# Altium footprint library WR-USB.PcbLib: 52 footprints (part 2 of 4)
Each footprint in its own frame and in the unit in brackets; x right, y up, seen from the top. Pads: shape width x height; smd on the part's side, far side on the other; paste and mask are expansions set on the pad; w line width, h text height; cw(c..) or ccw(c..) is an arc to the next point about the centre after c.
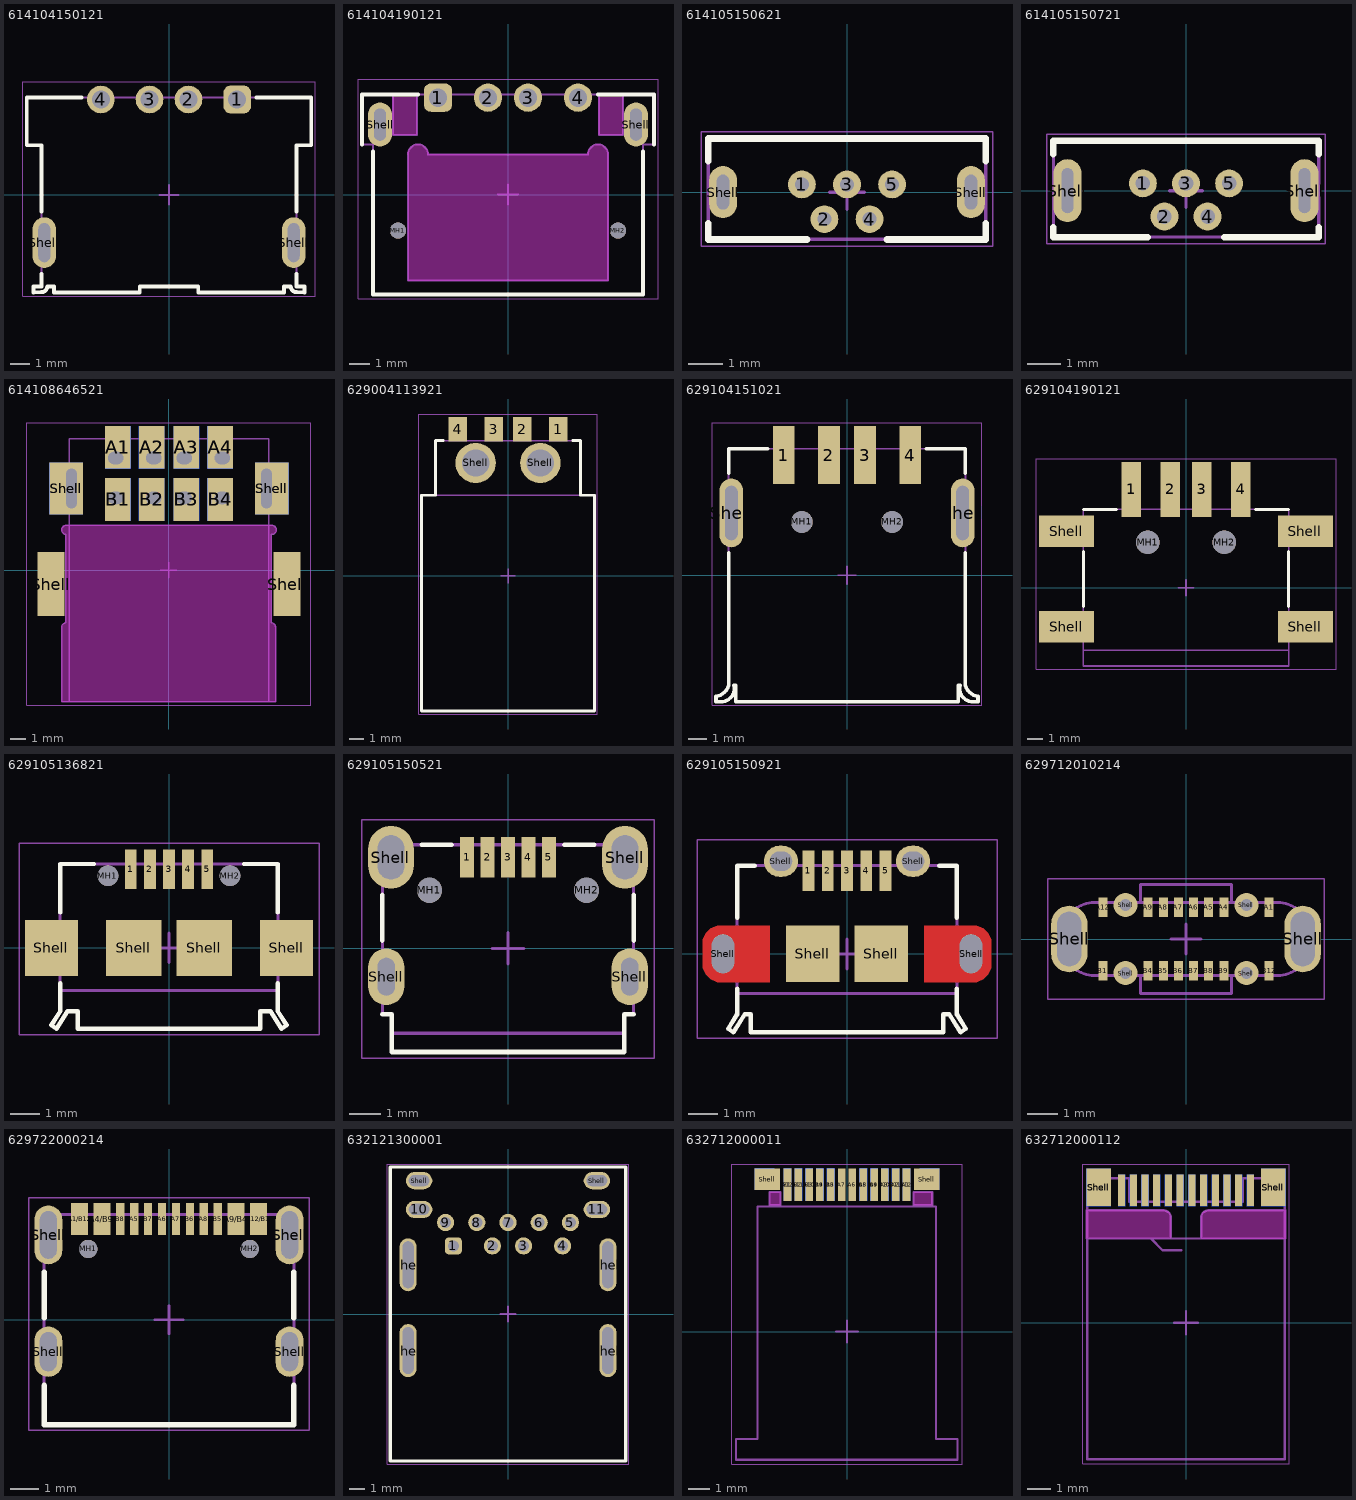
[diagram p1: the footprints below, top view; thin cyan lines are the x and y axes]

## 614104150121 [mm] "USB 2.0 THT Type A Horizontal Slim Type"
height 6.82
pads (6):
  rrect50% 1.42x1.42 hole 0.92: 1(3.5,4.9)
  round 1.42 hole 0.92: 2(1,4.9) 3(-1,4.9) 4(-3.5,4.9)
  oval 1.2x2.6 hole 0.6 slot 2 at 90 deg: Shell(-6.4,-2.45) Shell(6.4,-2.45)
Top Overlay:
  lines w0.2: -6.55,-4.05 -6.55,-4.69 -6.95,-4.69 -6.95,-5 -6.56,-4.99 ccw(c-6.55,-4.69) -6.25,-4.69 -5.9,-4.69 -5.9,-5 -1.5,-5 -1.5,-4.7 1.5,-4.7 1.5,-5 5.9,-5 5.9,-4.69 6.25,-4.69 ccw(c6.55,-4.69) 6.56,-4.99 6.95,-5 6.95,-4.69 6.55,-4.69 6.55,-4.05 ; -6.55,-0.85 -6.55,2.55 -7.3,2.55 -7.3,5 -4.5,5 ; 4.5,5 7.3,5 7.3,2.55 6.55,2.55 6.55,-0.85
Top Assembly:
  lines w0.1: -7.3,2.55 -7.3,5 7.3,5 7.3,2.55 6.55,2.55 6.55,-4.69 6.95,-4.69 6.95,-5 6.56,-4.99 cw(c6.55,-4.69) 6.25,-4.69 5.9,-4.69 5.9,-5 1.5,-5 1.5,-4.7 -1.5,-4.7 -1.5,-5 -5.9,-5 -5.9,-4.69 -6.25,-4.69 cw(c-6.55,-4.69) -6.56,-4.99 -6.95,-5 -6.95,-4.69 -6.55,-4.69 -6.55,2.55 -7.3,2.55
Top Designator:
  text ".Designator" at -3.647,-0.357 h1
Top 3D Body:
  lines w0.1: -7.3,2.55 -6.55,2.55 -6.55,-4.69 -6.95,-4.69 -6.95,-5 -6.56,-4.99 ccw(c-6.55,-4.69) -6.25,-4.69 -5.9,-4.69 -5.9,-5 -1.5,-5 -1.5,-4.7 1.5,-4.7 1.5,-5 5.9,-5 5.9,-4.69 6.25,-4.69 ccw(c6.55,-4.69) 6.56,-4.99 6.95,-5 6.95,-4.69 6.55,-4.69 6.55,2.55 7.3,2.55 7.3,5 -7.3,5 -7.3,2.55
Top Courtyard:
  lines w0.05: -7.5,-5.2 7.5,-5.2 7.5,5.81 -7.5,5.81 -7.5,-5.2
Top Component Center:
  lines w0.1: -0.5,0 0.5,0 ; 0,-0.5 0,0.5
3D body "614104150121.stp": height 7.24, standoff -1.58, extent -7.3,-5 7.3,5

## 614104190121 [mm] "USB 2.0 Type A Horizontal THT Short Type"
height 5.72
pads (8):
  rrect50% 1.42x1.42 hole 0.92: 1(-3.5,4.85)
  round 1.42 hole 0.92: 2(-1,4.85) 3(1,4.85) 4(3.5,4.85)
  round 0.8 hole 0.8 unplated: MH1(-5.5,-1.8) MH2(5.5,-1.8)
  oval 1.2x2.2 hole 0.6 slot 1.6 at 90 deg: Shell(-6.4,3.5) Shell(6.4,3.5)
Top Overlay:
  lines w0.2: -7.3,2.5 -7.3,5 -4.5,5 ; -6.75,2.15 -6.75,-5 6.75,-5 6.75,2.15 ; 4.5,5 7.3,5 7.3,2.5
Keep-Out Layer:
  board cut-out: 4.55,5 5.75,5 5.75,2.98 4.55,2.98
  board cut-out: -5,-4.3 5,-4.3 5,2.01 5,2.109 4.924,2.293 4.783,2.434 4.599,2.51 4.401,2.51 4.217,2.434 4.076,2.293 4,2.109 4,2.01 -4,2.01 -4,2.109 -4.076,2.293 -4.217,2.434 -4.401,2.51 -4.599,2.51 -4.783,2.434 -4.924,2.293 -5,2.109 -5,2.01
  board cut-out: -4.55,5 -5.75,5 -5.75,2.98 -4.55,2.98
Board Shape:
  lines w0.1: -5.75,2.98 -5.75,5 -4.55,5 -4.55,2.98 -5.75,2.98 ; -5,-4.3 5,-4.3 5,2.01 ccw(c4.5,2.01) 4,2.01 -4,2.01 ccw(c-4.5,2.01) -5,2.01 -5,-4.3 ; 4.55,2.98 4.55,5 5.75,5 5.75,2.98 4.55,2.98
  text "PCB Cutout Area" at -3.5,-1.49 h0.61
Top Assembly:
  lines w0.1: -7.3,2.5 -7.3,5 7.3,5 7.3,2.5 6.75,2.5 6.75,-5 -6.75,-5 -6.75,2.5 -7.3,2.5
Top Designator:
  text ".Designator" at -3.647,-0.357 h1
Top 3D Body:
  lines w0.1: -7.3,2.5 -7.3,5 7.3,5 7.3,2.5 6.75,2.5 6.75,-5 -6.75,-5 -6.75,2.5 -7.3,2.5
Top Courtyard:
  lines w0.05: -7.5,-5.2 7.5,-5.2 7.5,5.76 -7.5,5.76 -7.5,-5.2
Top Component Center:
  lines w0.1: -0.5,0 0.5,0 ; 0,-0.5 0,0.5
3D body "614104190121.stp": height 5.8, standoff -1.91, extent -7.3,-5 7.3,5

## 614105150621 [mm] "Micro USB 2.0 Type AB Vertical 5 Contacts"
height 5.61
pads (7):
  round 0.8 hole 0.4: 1(-1.3,0.22) 2(-0.65,-0.78) 3(0,0.22) 4(0.65,-0.78) 5(1.3,0.22)
  oval 0.8x1.5 hole 0.35 slot 1 at 90 deg: Shell(-3.575,0) Shell(3.575,0)
Top Overlay:
  lines w0.2: -4,-0.9 -4,-1.36 -1.15,-1.36 ; -4,0.9 -4,1.54 4,1.54 4,0.9 ; 1.15,-1.36 4,-1.36 4,-0.9
Top Assembly:
  lines w0.1: -4,-1.36 -4,1.54 4,1.54 4,-1.36 -4,-1.36
Top Designator:
  text ".Designator" at -3.647,-0.357 h1
Top 3D Body:
  lines w0.1: -4,-1.36 -4,1.54 4,1.54 4,-1.36 -4,-1.36
Top Courtyard:
  lines w0.05: -4.2,-1.56 -4.2,1.74 4.2,1.74 4.2,-1.56 -4.2,-1.56
Top Component Center:
  lines w0.1: -0.5,0 0.5,0 ; 0,-0.5 0,0.5
3D body "614105150621.stp": height 5.66, standoff -1.45, extent -4,-1.36 4,1.54

## 614105150721 [mm] "Micro USB 2.0 Type B Vertical 5 Contacts"
height 5.61
pads (7):
  round 0.84 hole 0.44: 1(-1.3,0.22) 2(-0.65,-0.78) 3(0,0.22) 4(0.65,-0.78) 5(1.3,0.22)
  oval 0.85x1.9 hole 0.35 slot 1.35 at 90 deg: Shell(-3.575,0) Shell(3.575,0)
Top Overlay:
  lines w0.2: -4,-1.1 -4,-1.4 -1.15,-1.4 ; -4,1.1 -4,1.5 4,1.5 4,1.1 ; 1.15,-1.4 4,-1.4 4,-1.1
Top Assembly:
  lines w0.1: -4,-1.4 4,-1.4 4,1.5 -4,1.5 -4,-1.4
Top Designator:
  text ".Designator" at -3.647,-0.357 h1
Top 3D Body:
  lines w0.1: -4,-1.4 4,-1.4 4,1.5 -4,1.5 -4,-1.4
Top Courtyard:
  lines w0.05: -4.2,-1.6 4.2,-1.6 4.2,1.7 -4.2,1.7 -4.2,-1.6
Top Component Center:
  lines w0.1: -0.5,0 0.5,0 ; 0,-0.5 0,0.5
3D body "Download_STP_614105150721_rev1.stp": height 5.64, standoff -1.51, extent -4,-1.4 4,1.5

## 614108646521 [mm] "USB 2.0 Mid-Mount Dual Port"
height 14.22
pads (32):
  rect 0x0 hole 0.8 slot 1 at 0 deg: A1(-3.475,7.37) A2(-0.975,7.37) A3(1.025,7.37) A4(3.525,7.37) B1(-3.475,4.75) B2(-0.975,4.75) B3(1.025,4.75) B4(3.525,4.75)
  rect 1.68x2.8 smd paste-2222: A1(-3.335,8.07) A2(-1.115,8.07) A3(1.165,8.07) A4(3.385,8.07) B1(-3.335,4.65) B2(-1.115,4.65) B3(1.165,4.65) B4(3.385,4.65)
  rect 1.68x2.8 smd far side paste-2222: A1(-3.335,8.07) A2(-1.115,8.07) A3(1.165,8.07) A4(3.385,8.07) B1(-3.335,4.65) B2(-1.115,4.65) B3(1.165,4.65) B4(3.385,4.65)
  rect 1.8x4.2 smd paste-2222: Shell(-7.725,-0.91) Shell(7.775,-0.91)
  rect 2.2x3.4 smd paste-2222: Shell(-6.725,5.37) Shell(6.775,5.37)
  rect 2.2x3.4 smd far side paste-2222: Shell(-6.725,5.37) Shell(6.775,5.37)
  rect 0x0 hole 0.7 slot 2.6 at 90 deg: Shell(-6.375,5.37) Shell(6.425,5.37)
Top Paste:
  drawing of 12 lines, arcs and shapes, not listed
Bottom Paste:
  drawing of 20 lines, arcs and shapes, not listed
Keep-Out Layer:
  board cut-out: -7.025,-8.65 -7.025,-3.75 -7.025,-3.694 -6.984,-3.588 -6.908,-3.505 -6.806,-3.456 -6.75,-3.451 -6.75,-3.45 -6.75,2.35 -6.75,2.351 -6.808,2.356 -6.912,2.408 -6.988,2.495 -7.027,2.604 -7.022,2.72 -6.975,2.826 -6.891,2.907 -6.783,2.95 -6.725,2.95 6.775,2.95 6.836,2.95 6.949,2.902 7.034,2.813 7.077,2.699 7.072,2.576 7.019,2.466 6.928,2.385 6.811,2.346 6.75,2.351 6.75,2.35 6.75,-3.45 6.75,-3.451 6.806,-3.456 6.908,-3.505 6.984,-3.588 7.025,-3.694 7.025,-3.75 7.025,-8.65
Board Shape:
  lines w0.1: -6.75,2.35 -6.75,-3.45 ccw(c-6.725,-3.75) -7.025,-3.75 -7.025,-8.65 7.025,-8.65 7.025,-3.75 ccw(c6.725,-3.75) 6.75,-3.451 6.75,2.35 ; -6.75,2.351 cw(c-6.725,2.65) -6.725,2.95 6.775,2.95 cw(c6.775,2.65) 6.75,2.351
  text "PCB Cutout" at -3.075,-2.73 h0.81
Top Assembly:
  lines w0.1: -6.525,-8.65 -6.525,8.65 6.575,8.65 6.575,-8.65 -6.525,-8.65
Top Designator:
  text ".Designator" at -3.647,-0.357 h1
Top 3D Body:
  lines w0.1: -6.525,-8.65 -6.525,8.65 6.575,8.65 6.575,-8.65 -6.525,-8.65
Top Courtyard:
  lines w0.05: -9.325,-8.85 -9.325,9.67 9.325,9.67 9.325,-8.85 -9.325,-8.85
Top Component Center:
  lines w0.1: -0.5,0 0.5,0 ; 0,-0.5 0,0.5
3D body "614108646521.stp": height 11.13, standoff -4.34, extent -7.825,-8.65 7.875,8.684

## 629004113921 [mm] "USB 2.0 Plug Type A SMT with Clip"
height 19.8
pads (6):
  rect 1.3x1.7 smd: 1(3.5,10.2) 2(1,10.2) 3(-1,10.2) 4(-3.5,10.2)
  round 2.8 hole 1.9: Shell(-2.25,7.85) Shell(2.25,7.85)
Top Overlay:
  lines w0.2: -4.5,9.4 -5.05,9.4 -5.05,5.6 -6,5.6 -6,-9.4 6,-9.4 6,5.6 5.05,5.6 5.05,9.4 4.5,9.4
Assembly Notes:
  lines w0.1: -6,5.6 6,5.6
  text "PCB Edge" at -2,4.55 h0.61
Top Assembly:
  lines w0.1: -4.05,9.4 -4.05,10.4 -2.95,10.4 -2.95,9.4 ; -1.55,9.4 -1.55,10.4 -0.45,10.4 -0.45,9.4 ; 0.45,9.4 0.45,10.4 1.55,10.4 1.55,9.4 ; 2.95,9.4 2.95,10.4 4.05,10.4 4.05,9.4 ; -6,-9.4 -6,5.6 -5.05,5.6 -5.05,9.4 5.05,9.4 5.05,5.6 6,5.6 6,-9.4 -6,-9.4
Top Designator:
  text ".Designator" at -3.647,-0.357 h1
Top 3D Body:
  lines w0.1: -4.05,9.4 -4.05,10.4 -2.95,10.4 -2.95,9.4 ; -1.55,9.4 -1.55,10.4 -0.45,10.4 -0.45,9.4 ; 0.45,9.4 0.45,10.4 1.55,10.4 1.55,9.4 ; 2.95,9.4 2.95,10.4 4.05,10.4 4.05,9.4 ; -6,-9.4 -6,5.6 -5.05,5.6 -5.05,9.4 5.05,9.4 5.05,5.6 6,5.6 6,-9.4 -6,-9.4
Top Courtyard:
  lines w0.05: -6.2,-9.6 6.2,-9.6 6.2,11.25 -6.2,11.25 -6.2,-9.6
Top Component Center:
  lines w0.1: -0.5,0 0.5,0 ; 0,-0.5 0,0.5
3D body "629004113921.stp": height 2.25, standoff -2.25, extent -6,-9.4 6,10.4

## 629104151021 [mm] "USB 2.0 Type A Horizontal SMT with pegs"
height 7
pads (8):
  rect 1.2x3.2 smd: 1(-3.5,6.65) 2(-1,6.65) 3(1,6.65) 4(3.5,6.65)
  round 1.2 hole 1.2 unplated: MH1(-2.5,2.95) MH2(2.5,2.95)
  oval 1.3x3.8 hole 0.7 slot 3 at 90 deg: Shell(-6.4,3.45) Shell(6.4,3.45)
Top Overlay:
  lines w0.2: -7.25,-6.708 -7.25,-7 -6.87,-6.999 ccw(c-6.983,-6.257) -6.25,-6.1 -6.15,-6.1 -6.15,-7 6.15,-7 6.15,-6.1 6.25,-6.1 ccw(c6.983,-6.257) 6.87,-6.999 7.25,-7 7.25,-6.708 ; -7.249,-6.708 ccw(c-7.39,-5.84) -6.55,-6.1 -6.55,1.25 ; -6.55,5.65 -6.55,7 -4.4,7 ; 4.4,7 6.55,7 6.55,5.65 ; 6.55,1.25 6.55,-6.1 ccw(c7.39,-5.84) 7.249,-6.708
Assembly Notes:
  lines w0.1: -6.15,-7 6.15,-7
  text "PCB Edge" at -2.2,-8.2 h0.81
Top Assembly:
  lines w0.1: -7.25,-6.708 -7.25,-7 -6.87,-6.999 ccw(c-6.983,-6.257) -6.25,-6.1 -6.15,-6.1 -6.15,-7 6.15,-7 6.15,-6.1 6.25,-6.1 ccw(c6.983,-6.257) 6.87,-6.999 7.25,-7 7.25,-6.708 ; -7.249,-6.708 ccw(c-7.39,-5.84) -6.55,-6.1 -6.55,7 6.55,7 6.55,-6.1 ccw(c7.39,-5.84) 7.249,-6.708 ; -3.8,7 -3.8,8.2 -3.2,8.2 -3.2,7 ; -1.3,7 -1.3,8.2 -0.7,8.2 -0.7,7 ; 0.7,7 0.7,8.2 1.3,8.2 1.3,7 ; 3.2,7 3.2,8.2 3.8,8.2 3.8,7
Top Designator:
  text ".Designator" at -3.647,-0.357 h1
Top 3D Body:
  lines w0.1: -7.25,-6.708 -7.25,-7 -6.87,-6.999 ccw(c-6.983,-6.257) -6.25,-6.1 -6.15,-6.1 -6.15,-7 6.15,-7 6.15,-6.1 6.25,-6.1 ccw(c6.983,-6.257) 6.87,-6.999 7.25,-7 7.25,-6.708 ; -7.249,-6.708 ccw(c-7.39,-5.84) -6.55,-6.1 -6.55,7 6.55,7 6.55,-6.1 ccw(c7.39,-5.84) 7.249,-6.708 ; -3.8,7 -3.8,8.2 -3.2,8.2 -3.2,7 ; -1.3,7 -1.3,8.2 -0.7,8.2 -0.7,7 ; 0.7,7 0.7,8.2 1.3,8.2 1.3,7 ; 3.2,7 3.2,8.2 3.8,8.2 3.8,7
Top Courtyard:
  lines w0.05: -7.45,-7.2 7.45,-7.2 7.45,8.45 -7.45,8.45 -7.45,-7.2
Top Component Center:
  lines w0.1: -0.5,0 0.5,0 ; 0,-0.5 0,0.5
3D body "629104151021.stp": height 7.34, standoff -2.16, extent -7.25,-7 7.25,8.2

## 629104190121 [mm] "USB 2.0 Type A Horizontal SMT Short Type"
height 6.3
pads (10):
  rect 1.25x3.5 smd: 1(-3.5,6.28) 2(-1,6.28) 3(1,6.28) 4(3.5,6.28)
  round 1.5 hole 1.5 unplated: MH1(-2.45,2.9) MH2(2.45,2.9)
  rect 3.5x2 smd: Shell(-7.63,-2.5) Shell(-7.63,3.6) Shell(7.63,-2.5) Shell(7.63,3.6)
Top Overlay:
  lines w0.2: -6.55,-1.2 -6.55,2.3 ; -6.55,5 -4.45,5 ; 4.45,5 6.55,5 ; 6.55,-1.2 6.55,2.3
Assembly Notes:
  lines w0.1: -6.55,-4 6.55,-4
  text "PCB Edge" at -1.7,-4.85 h0.61
Top Assembly:
  lines w0.1: -6.55,-3.25 -8.25,-3.25 -8.25,-1.75 -6.55,-1.75 ; -6.55,2.85 -8.25,2.85 -8.25,4.35 -6.55,4.35 ; -3.775,5 -3.775,6.1 -3.225,6.1 -3.225,5 ; -1.275,5 -1.275,6.1 -0.725,6.1 -0.725,5 ; 0.725,5 0.725,6.1 1.275,6.1 1.275,5 ; 3.225,5 3.225,6.1 3.775,6.1 3.775,5 ; 6.55,-3.25 8.25,-3.25 8.25,-1.75 6.55,-1.75 ; 6.55,2.85 8.25,2.85 8.25,4.35 6.55,4.35 ; -6.55,-5 6.55,-5 6.55,5 -6.55,5 -6.55,-5
Top Designator:
  text ".Designator" at -3.647,-0.357 h1
Top 3D Body:
  lines w0.1: -6.55,-3.25 -8.25,-3.25 -8.25,-1.75 -6.55,-1.75 ; -6.55,2.85 -8.25,2.85 -8.25,4.35 -6.55,4.35 ; -3.775,5 -3.775,6.1 -3.225,6.1 -3.225,5 ; -1.275,5 -1.275,6.1 -0.725,6.1 -0.725,5 ; 0.725,5 0.725,6.1 1.275,6.1 1.275,5 ; 3.225,5 3.225,6.1 3.775,6.1 3.775,5 ; 6.55,-3.25 8.25,-3.25 8.25,-1.75 6.55,-1.75 ; 6.55,2.85 8.25,2.85 8.25,4.35 6.55,4.35 ; -6.55,-5 6.55,-5 6.55,5 -6.55,5 -6.55,-5
Top Courtyard:
  lines w0.05: -9.58,-5.2 9.58,-5.2 9.58,8.23 -9.58,8.23 -9.58,-5.2
Top Component Center:
  lines w0.1: -0.5,0 0.5,0 ; 0,-0.5 0,0.5
3D body "629104190121.stp": height 6.35, standoff -0.12, extent -8.25,-5 8.25,6.109

## 629105136821 [mm] "Micro USB 2.0 SMT Type B Horizontal 5 Contacts"
height 3
pads (11):
  rect 0.4x1.35 smd: 1(-1.3,2.675) 2(-0.65,2.675) 3(0,2.675) 4(0.65,2.675) 5(1.3,2.675)
  round 0.7 hole 0.7 unplated: MH1(-2.075,2.45) MH2(2.075,2.45)
  rect 1.8x1.9 smd: Shell(-4,0) Shell(4,0)
  rect 1.9x1.9 smd: Shell(-1.2,0) Shell(1.2,0)
Top Overlay:
  lines w0.15: -3.7,-1.2 -3.7,-2.15 -4,-2.625 -3.825,-2.75 -3.45,-2.15 -3.1,-2.15 -3.1,-2.75 3.1,-2.75 3.1,-2.15 3.45,-2.15 3.825,-2.75 4,-2.625 3.7,-2.15 3.7,-1.2 ; -3.7,1.2 -3.7,2.85 -2.55,2.85 ; 2.55,2.85 3.7,2.85 3.7,1.2
Assembly Notes:
  lines w0.1: -3.7,-1.45 3.7,-1.45
  text "PCB Edge" at -1.2,-2.1 h0.41
Top Assembly:
  lines w0.1: -1.425,2.85 -1.425,3.15 -1.175,3.15 -1.175,2.85 ; -0.775,2.85 -0.775,3.15 -0.525,3.15 -0.525,2.85 ; -0.125,2.85 -0.125,3.15 0.125,3.15 0.125,2.85 ; 0.525,2.85 0.525,3.15 0.775,3.15 0.775,2.85 ; 1.175,2.85 1.175,3.15 1.425,3.15 1.425,2.85 ; -4,-2.625 -3.825,-2.75 -3.45,-2.15 -3.1,-2.15 -3.1,-2.75 3.1,-2.75 3.1,-2.15 3.45,-2.15 3.825,-2.75 4,-2.625 3.7,-2.15 3.7,2.85 -3.7,2.85 -3.7,-2.15 -4,-2.625
Top Designator:
  text ".Designator" at -3.647,-0.357 h1
Top 3D Body:
  lines w0.1: -1.425,2.85 -1.425,3.15 -1.175,3.15 -1.175,2.85 ; -0.775,2.85 -0.775,3.15 -0.525,3.15 -0.525,2.85 ; -0.125,2.85 -0.125,3.15 0.125,3.15 0.125,2.85 ; 0.525,2.85 0.525,3.15 0.775,3.15 0.775,2.85 ; 1.175,2.85 1.175,3.15 1.425,3.15 1.425,2.85 ; -4,-2.625 -3.7,-2.15 -3.7,2.85 3.7,2.85 3.7,-2.15 4,-2.625 3.825,-2.75 3.45,-2.15 3.1,-2.15 3.1,-2.75 -3.1,-2.75 -3.1,-2.15 -3.45,-2.15 -3.825,-2.75 -4,-2.625
Top Courtyard:
  lines w0.05: -5.1,-2.95 -5.1,3.55 5.1,3.55 5.1,-2.95 -5.1,-2.95
Top Component Center:
  lines w0.1: -0.5,0 0.5,0 ; 0,-0.5 0,0.5
3D body "629105136821.stp": height 2.69, standoff -0.61, extent -4,-2.73 4,3.173

## 629105150521 [mm] "Micro USB 2.0 SMT Type B Horizontal 5 Contacts High Current"
height 2.66
pads (11):
  rect 0.45x1.3 smd: 1(-1.3,2.9) 2(-0.65,2.9) 3(0,2.9) 4(0.65,2.9) 5(1.3,2.9)
  round 0.8 hole 0.8 unplated: MH1(-2.5,1.85) MH2(2.5,1.85)
  oval 1.15x1.8 hole 0.55 slot 1.2 at 90 deg: Shell(-3.875,-0.9) Shell(3.875,-0.9)
  oval 1.45x2 hole 0.85 slot 1.4 at 90 deg: Shell(-3.725,2.9) Shell(3.725,2.9)
Top Overlay:
  lines w0.15: -4,-2.1 -3.7,-2.1 -3.7,-3.3 3.7,-3.3 3.7,-2.1 4,-2.1 ; -4,0.25 -4,1.7 ; -2.75,3.3 -1.8,3.3 ; 1.8,3.3 2.75,3.3 ; 4,0.25 4,1.7
Assembly Notes:
  lines w0.1: -3.7,-2.7 3.7,-2.7
  text "PCB Edge" at -1.3,-3.3 h0.41
Top Assembly:
  lines w0.1: -4,-2.1 -4,3.3 4,3.3 4,-2.1 3.7,-2.1 3.7,-3.3 -3.7,-3.3 -3.7,-2.1 -4,-2.1
Top Designator:
  text ".Designator" at -3.647,-0.357 h1
Top 3D Body:
  lines w0.1: -4,-2.1 -4,3.3 4,3.3 4,-2.1 3.7,-2.1 3.7,-3.3 -3.7,-3.3 -3.7,-2.1 -4,-2.1
Top Courtyard:
  lines w0.05: -4.65,-3.5 -4.65,4.1 4.65,4.1 4.65,-3.5 -4.65,-3.5
Top Component Center:
  lines w0.1: -0.5,0 0.5,0 ; 0,-0.5 0,0.5
3D body "629105150521.stp": height 2.75, standoff -1.77, extent -4,-3.3 4,3.303

## 629105150921 [mm] "Micro USB 2.0 Type AB, Receptacle, Horizontal, SMT"
height 3
pads (11):
  rect 0.4x1.35 smd: 1(-1.3,2.8) 2(-0.65,2.8) 3(0,2.8) 4(0.65,2.8) 5(1.3,2.8)
  oval 0.75x1.3 hole 0.75 slot 1.3 at 90 deg: Shell(-4.175,0) Shell(4.175,0)
  oval 1.15x1.05 hole 0.65 slot 0.75 at 0 deg: Shell(-2.225,3.12) Shell(2.225,3.12)
  rect 1.8x1.9 smd: Shell(-1.15,0) Shell(1.15,0)
Top Layer:
  region: 4.25,-0.95 4.369,-0.95 4.59,-0.859 4.759,-0.69 4.85,-0.469 4.85,-0.35 4.85,0.35 4.85,0.469 4.759,0.69 4.59,0.859 4.369,0.95 4.25,0.95 2.6,0.95 2.6,-0.95
  pour cut-out: -4.25,-0.65 -4.31,-0.65 -4.42,-0.604 -4.504,-0.52 -4.55,-0.41 -4.55,-0.35 -4.55,0.35 -4.55,0.41 -4.504,0.52 -4.42,0.604 -4.31,0.65 -4.25,0.65 -4.1,0.65 -4.04,0.65 -3.93,0.604 -3.846,0.52 -3.8,0.41 -3.8,0.35 -3.8,-0.35 -3.8,-0.41 -3.846,-0.52 -3.93,-0.604 -4.04,-0.65 -4.1,-0.65
  region: -4.25,-0.95 -4.369,-0.95 -4.59,-0.859 -4.759,-0.69 -4.85,-0.469 -4.85,-0.35 -4.85,0.35 -4.85,0.469 -4.759,0.69 -4.59,0.859 -4.369,0.95 -4.25,0.95 -2.6,0.95 -2.6,-0.95
Top Overlay:
  lines w0.15: -3.7,-1.18 -3.7,-2.04 -4,-2.515 -3.825,-2.64 -3.444,-2.03 -3.24,-2.03 -3.24,-2.64 3.24,-2.64 3.24,-2.03 3.444,-2.03 3.825,-2.64 4,-2.515 3.7,-2.04 3.7,-1.18 ; -3.7,1.22 -3.7,2.97 -3.1,2.97 ; 3.1,2.97 3.7,2.97 3.7,1.22
Assembly Notes:
  lines w0.1: -3.7,-1.33 3.7,-1.33
  text "PCB Edge" at -1.9,-2.2 h0.61
Top Assembly:
  lines w0.1: -3.7,-2.04 -4,-2.515 -3.825,-2.64 -3.444,-2.03 -3.24,-2.03 -3.24,-2.64 3.24,-2.64 3.24,-2.03 3.444,-2.03 3.825,-2.64 4,-2.515 3.7,-2.04 ; -3.7,-2.03 -3.7,2.97 3.7,2.97 3.7,-2.03
Top Designator:
  text ".Designator" at -3.647,-0.357 h1
Top 3D Body:
  lines w0.1: -3.7,-2.04 -4,-2.515 -3.825,-2.64 -3.444,-2.03 -3.24,-2.03 -3.24,-2.64 3.24,-2.64 3.24,-2.03 3.444,-2.03 3.825,-2.64 4,-2.515 3.7,-2.04 ; -3.7,-2.03 -3.7,2.97 3.7,2.97 3.7,-2.03
Top Courtyard:
  lines w0.05: -5.05,-2.84 -5.05,3.845 5.05,3.845 5.05,-2.84 -5.05,-2.84
Top Component Center:
  lines w0.1: -0.5,0 0.5,0 ; 0,-0.5 0,0.5
3D body "629105150921.stp": height 2.76, standoff -0.52, extent -4.3,-2.64 4.3,3.23

## 629712010214 [mm] "USB TYPE C VERTICAL PLUG"
height 7.1
pads (22):
  rect 0.3x0.65 smd: A1(2.75,1.05) A4(1.25,1.05) A5(0.75,1.05) A6(0.25,1.05) A7(-0.25,1.05) A8(-0.75,1.05) A9(-1.25,1.05) A12(-2.75,1.05) B1(-2.75,-1.05) B4(-1.25,-1.05) B5(-0.75,-1.05) B6(-0.25,-1.05) B7(0.25,-1.05) B8(0.75,-1.05) B9(1.25,-1.05) B12(2.75,-1.05)
  oval 1.2x2.2 hole 0.8 slot 1.8 at 90 deg: Shell(-3.86,0) Shell(3.86,0)
  round 0.8 hole 0.4: Shell(-2,-1.125) Shell(-2,1.125) Shell(2,-1.125) Shell(2,1.125)
Top Assembly:
  lines w0.1: -1.505,-1.2 -1.505,-1.8 1.505,-1.8 1.505,-1.2 ; -1.505,1.2 -1.505,1.8 1.505,1.8 1.505,1.2 ; -4.125,0 cw(c-3.025,0.1) -3.125,1.2 3.125,1.2 cw(c3.025,0.1) 4.125,0 cw(c3.025,-0.1) 3.125,-1.2 -3.125,-1.2 cw(c-3.025,-0.1) -4.125,0
Top Designator:
  text ".Designator" at -3.647,-0.357 h1
Top 3D Body:
  lines w0.1: -1.505,-1.2 -1.505,-1.8 1.505,-1.8 1.505,-1.2 ; -1.505,1.2 -1.505,1.8 1.505,1.8 1.505,1.2 ; -4.125,0 cw(c-3.025,0.1) -3.125,1.2 3.125,1.2 cw(c3.025,0.1) 4.125,0 cw(c3.025,-0.1) 3.125,-1.2 -3.125,-1.2 cw(c-3.025,-0.1) -4.125,0
Top Courtyard:
  lines w0.05: -4.565,-2 -4.565,2 4.565,2 4.565,-2 -4.565,-2
Top Component Center:
  lines w0.1: -0.5,0 0.5,0 ; 0,-0.5 0,0.5
3D body "629712010214.stp": height 6.8, standoff -0.3, extent -4.13,-1.8 4.12,1.8

## 629722000214 [mm] "USB TYPE C VERTICAL PLUG"
height 3.31
pads (18):
  rect 0.6x1.14 smd: A1/B12(-3.2,3.605) A4/B9(-2.4,3.605) A9/B4(2.4,3.605) A12/B1(3.2,3.605)
  rect 0.3x1.14 smd: A5(-1.25,3.605) A6(-0.25,3.605) A7(0.25,3.605) A8(1.25,3.605) B5(1.75,3.605) B6(0.75,3.605) B7(-0.75,3.605) B8(-1.75,3.605)
  round 0.65 hole 0.65 unplated: MH1(-2.89,2.535) MH2(2.89,2.535)
  oval 1x1.8 hole 0.6 slot 1.4 at 90 deg: Shell(-4.32,-1.145) Shell(4.32,-1.145)
  oval 1x2.1 hole 0.6 slot 1.7 at 90 deg: Shell(-4.32,3.035) Shell(4.32,3.035)
Top Overlay:
  lines w0.2: -4.47,-2.355 -4.47,-3.765 4.47,-3.765 4.47,-2.355 ; -4.47,0.065 -4.47,1.695 ; 4.47,0.065 4.47,1.695
Top Assembly:
  lines w0.1: -4.47,-3.765 -4.47,3.765 4.47,3.765 4.47,-3.765 -4.47,-3.765
Top Designator:
  text ".Designator" at -3.647,-0.357 h1
Top 3D Body:
  lines w0.1: -4.47,-3.765 -4.47,3.765 4.47,3.765 4.47,-3.765 -4.47,-3.765
Top Courtyard:
  lines w0.05: -5.02,-3.965 5.02,-3.965 5.02,4.375 -5.02,4.375 -5.02,-3.965
Top Component Center:
  lines w0.1: -0.5,0 0.5,0 ; 0,-0.5 0,0.5
3D body "629722000214.stp": height 3.33, standoff -0.83, extent -4.79,-3.765 4.79,3.945

## 632121300001 [mm] "USB 3.1 Type A Receptacle Horizontal THT Power Delivery"
height 8.01
pads (17):
  rrect50% 1.1x1.1 hole 0.7: 1(-3.5,4.365)
  round 1.1 hole 0.7: 2(-1,4.365) 3(1,4.365) 4(3.5,4.365) 5(4,5.865) 6(2,5.865) 7(0,5.865) 8(-2,5.865) 9(-4,5.865)
  oval 1.7x1.1 hole 0.7 slot 1.3 at 0 deg: 10(-5.7,6.705) 11(5.7,6.705) Shell(-5.7,8.545) Shell(5.7,8.545)
  oval 1.1x3.4 hole 0.7 slot 3 at 90 deg: Shell(-6.4,-2.345) Shell(-6.4,3.155) Shell(6.4,-2.345) Shell(6.4,3.155)
Top Overlay:
  lines w0.2: -7.55,-9.415 7.55,-9.415 7.55,9.415 -7.55,9.415 -7.55,-9.415
Top Assembly:
  lines w0.1: -7.55,-9.415 -7.55,9.415 7.55,9.415 7.55,-9.415 -7.55,-9.415
Top Designator:
  text ".Designator" at -3.647,-0.357 h1
Top 3D Body:
  lines w0.1: -7.55,-9.415 -7.55,9.415 7.55,9.415 7.55,-9.415 -7.55,-9.415
Top Courtyard:
  lines w0.05: -7.75,-9.615 -7.75,9.615 7.75,9.615 7.75,-9.615 -7.75,-9.615
Top Component Center:
  lines w0.1: -0.5,0 0.5,0 ; 0,-0.5 0,0.5
3D body "632121300001.stp": height 8.06, standoff -1.76, extent -7.55,-9.415 7.55,9.415

## 632712000011 [mm] "USB 3.1 Type C Plug Horizontal SMT"
height 2.4
pads (26):
  rect 0.35x1.5 smd: A1(2.75,6.8) A2(2.25,6.8) A3(1.75,6.8) A4(1.25,6.8) A5(0.75,6.8) A6(0.25,6.8) A7(-0.25,6.8) A8(-0.75,6.8) A9(-1.25,6.8) A10(-1.75,6.8) A11(-2.25,6.8) A12(-2.75,6.8)
  rect 0.35x1.5 smd far side: B1(-2.75,6.8) B2(-2.25,6.8) B3(-1.75,6.8) B4(-1.25,6.8) B5(-0.75,6.8) B8(0.75,6.8) B9(1.25,6.8) B10(1.75,6.8) B11(2.25,6.8) B12(2.75,6.8)
  rect 0.9x1 smd far side: Shell(-3.825,7.05) Shell(3.825,7.05)
  rect 1.18x1 smd: Shell(-3.69,7.05) Shell(3.69,7.05)
Keep-Out Layer:
  board cut-out: -3.58,5.85 -3.58,6.45 -3.08,6.45 -3.08,5.85
  board cut-out: 3.075,5.85 3.075,6.45 3.945,6.45 3.945,5.85
Board Shape:
  lines w0.1: -3.58,5.85 -3.08,5.85 -3.08,6.45 -3.58,6.45 -3.58,5.85 ; 3.075,5.85 3.945,5.85 3.945,6.45 3.075,6.45 3.075,5.85
Top Assembly:
  lines w0.1: -5.135,-5.92 -5.135,-4.97 -4.135,-4.97 -4.135,5.78 4.115,5.78 4.115,-4.97 5.115,-4.97 5.115,-5.92 -5.135,-5.92
Top Designator:
  text ".Designator" at -3.647,-0.357 h1
Top 3D Body:
  lines w0.1: -5.135,-5.92 -5.135,-4.97 -4.135,-4.97 -4.135,5.78 4.115,5.78 4.115,-4.97 5.115,-4.97 5.115,-5.92 -5.135,-5.92
Top Courtyard:
  lines w0.05: -5.335,-6.12 -5.335,7.75 5.335,7.75 5.335,-6.12 -5.335,-6.12
Top Component Center:
  lines w0.1: -0.5,0 0.5,0 ; 0,-0.5 0,0.5
3D body "632712000011.stp": height 1.74, standoff -2.46, extent -5.135,-5.92 5.115,7.48

## 632712000112 [mm] "USB_ Type C 3.1 Plug_Horizontal_SMT_0,8mm"
height 3.87
pads (28):
  rect 0.3x1.35 smd: A1(2.75,5.65) A2(2.25,5.65) A3(1.75,5.65) A4(1.25,5.65) A5(0.75,5.65) A6(0.25,5.65) A7(-0.25,5.65) A8(-0.75,5.65) A9(-1.25,5.65) A10(-1.75,5.65) A11(-2.25,5.65) A12(-2.75,5.65)
  rect 0.3x1.35 smd far side: B1(-2.75,5.65) B2(-2.25,5.65) B3(-1.75,5.65) B4(-1.25,5.65) B5(-0.75,5.65) B6(-0.25,5.65) B7(0.25,5.65) B8(0.75,5.65) B9(1.25,5.65) B10(1.75,5.65) B11(2.25,5.65) B12(2.75,5.65)
  rect 1.04x1.6 smd: Shell(-3.73,5.775) Shell(3.73,5.775)
  rect 1.04x1.6 smd far side: Shell(-3.73,5.775) Shell(3.73,5.775)
Keep-Out Layer:
  board cut-out: -4.25,3.595 -4.25,4.795 -0.95,4.795 -0.89,4.795 -0.78,4.749 -0.696,4.665 -0.65,4.555 -0.65,4.495 -0.65,3.595
  board cut-out: 0.65,3.595 0.65,4.495 0.65,4.555 0.696,4.665 0.78,4.749 0.89,4.795 0.95,4.795 4.25,4.795 4.25,3.595
Board Shape:
  lines w0.1: 4.25,4.795 4.25,3.595 0.65,3.595 0.65,4.495 cw(c0.95,4.495) 0.95,4.795 4.25,4.795 ; -4.25,3.595 -0.65,3.595 -0.65,4.495 ccw(c-0.95,4.495) -0.95,4.795 -4.25,4.795 -4.25,3.595
Assembly Notes:
  lines w0.1: -4.25,3.595 4.25,3.595 ; -1.5,3.595 -1,3.095 -0.2,3.095
  text "PCB End" at 0,2.695 h1.02
Top Assembly:
  lines w0.1: -4.215,-5.83 4.215,-5.83 4.215,6.17 2.43,6.17 2.43,5.17 -2.43,5.17 -2.43,6.17 -4.215,6.17 -4.215,-5.83
Top Designator:
  text ".Designator" at -3.647,-0.357 h1
Top 3D Body:
  lines w0.1: -4.215,-5.83 4.215,-5.83 4.215,6.17 2.43,6.17 2.43,5.17 -2.43,5.17 -2.43,6.17 -4.215,6.17 -4.215,-5.83
Top Courtyard:
  lines w0.05: -4.415,-6.03 4.415,-6.03 4.415,6.775 -4.415,6.775 -4.415,-6.03
Top Component Center:
  lines w0.1: -0.5,0 0.5,0 ; 0,-0.5 0,0.5
3D body "632712000112.stp": height 1.51, standoff -2.21, extent -4.215,-5.83 4.215,6.17